# Altium footprint library PCB_AT32F435VMT7_2026-04-01.PcbLib: 12 footprints
Each footprint in its own frame and in the unit in brackets; x right, y up, seen from the top. Pads: shape width x height; smd on the part's side, far side on the other; paste and mask are expansions set on the pad; w line width, h text height; cw(c..) or ccw(c..) is an arc to the next point about the centre after c.
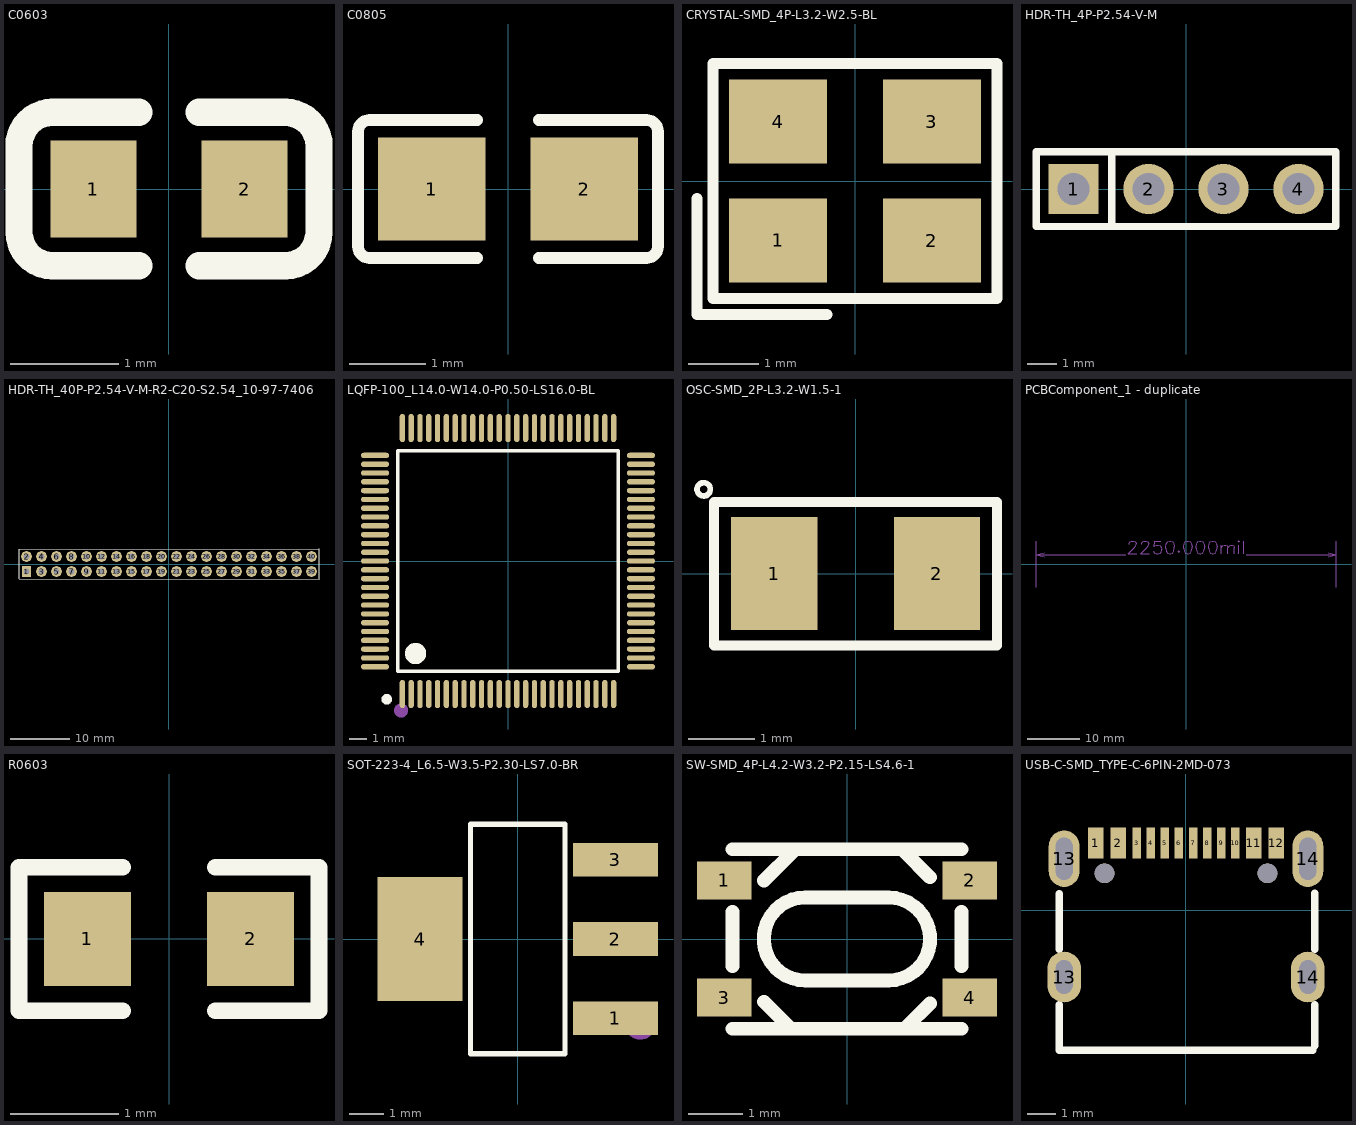
[diagram p0: the footprints below, top view; thin cyan lines are the x and y axes]

## C0603 [mm]
pads (2):
  rect 0.8x0.9 smd paste+0 mask+0.051: 1(-0.7,0) 2(0.7,0)
Top Overlay:
  lines w0.254: -1.08,0.71 -0.28,0.71 ; -1.08,0.71 ccw(c-1.08,0.4) -1.39,0.4 -1.39,-0.4 ccw(c-1.08,-0.4) -1.08,-0.71 -0.28,-0.71 ; 0.28,-0.71 1.08,-0.71 ccw(c1.08,-0.4) 1.39,-0.4 ; 0.28,0.71 1.08,0.71 cw(c1.08,0.4) 1.39,0.4 1.39,-0.4

## C0805 [mm]
pads (2):
  rect 1.41x1.35 smd paste-100 mask+0.051: 1(-1,0) 2(1,0)
Top Overlay:
  lines w0.152: -0.401,-0.904 -1.811,-0.904 cw(c-1.811,-0.751) -1.964,-0.751 -1.964,0.751 cw(c-1.811,0.751) -1.811,0.904 -0.401,0.904 ; 0.401,-0.904 1.811,-0.904 ccw(c1.811,-0.751) 1.964,-0.751 1.964,0.751 ccw(c1.811,0.751) 1.811,0.904 0.401,0.904
Top Paste:
  region: 0.475,-0.62 0.475,-0.2 0.92,-0.2 0.92,0.25 0.48,0.25 0.475,0.66 0.525,0.71 1.675,0.71 1.725,0.66 1.725,-0.62 1.675,-0.67 0.525,-0.67
  region: -1.675,-0.62 -1.675,0.66 -1.625,0.71 -0.475,0.71 -0.425,0.66 -0.42,0.25 -0.87,0.25 -0.87,-0.2 -0.43,-0.2 -0.425,-0.62 -0.475,-0.67 -1.625,-0.67

## CRYSTAL-SMD_4P-L3.2-W2.5-BL [mm]
pads (4):
  rect 1.4x1.2 smd paste+0 mask+0.051: 1(-1.1,-0.85) 2(1.1,-0.85) 3(1.1,0.85) 4(-1.1,0.85)
Top Overlay:
  lines w0.152: -2.257,-0.25 -2.257,-1.907 -0.4,-1.907 ; -2.029,-1.679 2.029,-1.678 2.029,1.679 -2.029,1.679 -2.029,-1.679
Mechanical 15:
  circle w0.36: c-1.143,-0.889 r0.18

## HDR-TH_4P-P2.54-V-M [mm]
pads (4):
  rect 1.7x1.7 hole 1.1 paste+0 mask+0.051: 1(-3.81,0)
  round 1.7 hole 1.1 paste+0 mask+0.051: 2(-1.27,0) 3(1.27,0) 4(3.81,0)
Top Overlay:
  lines w0.254: -2.516,-1.27 -2.516,1.27 ; -2.516,1.27 -5.08,1.27 -5.08,-1.27 5.08,-1.27 5.08,1.27 -2.516,1.27

## HDR-TH_40P-P2.54-V-M-R2-C20-S2.54_10-97-7406 [mm]
pads (40):
  rect 1.575x1.8 hole 1.02 paste+0 mask+0.051: 1(-24.13,-1.27)
  round 1.8 hole 1.02 paste+0 mask+0.051: 2(-24.13,1.27) 3(-21.59,-1.27) 4(-21.59,1.27) 5(-19.05,-1.27) 6(-19.05,1.27) 7(-16.51,-1.27) 8(-16.51,1.27) 9(-13.97,-1.27) 10(-13.97,1.27) 11(-11.43,-1.27) 12(-11.43,1.27) 13(-8.89,-1.27) 14(-8.89,1.27) 15(-6.35,-1.27) 16(-6.35,1.27) 17(-3.81,-1.27) 18(-3.81,1.27) 19(-1.27,-1.27) 20(-1.27,1.27) 21(1.27,-1.27) 22(1.27,1.27) 23(3.81,-1.27) 24(3.81,1.27) 25(6.35,-1.27) 26(6.35,1.27) 27(8.89,-1.27) 28(8.89,1.27) 29(11.43,-1.27) 30(11.43,1.27) 31(13.97,-1.27) 32(13.97,1.27) 33(16.51,-1.27) 34(16.51,1.27) 35(19.05,-1.27) 36(19.05,1.27) 37(21.59,-1.27) 38(21.59,1.27) 39(24.13,-1.27) 40(24.13,1.27)
Top Overlay:
  lines w0.203: -25.4,-2.54 25.4,-2.54 25.4,2.54 -25.4,2.54 -25.4,-2.54

## LQFP-100_L14.0-W14.0-P0.50-LS16.0-BL [mm]
pads (100):
  oval 0.3x1.6 smd paste+0 mask+0.051: 1(-6,-7.55) 2(-5.5,-7.55) 3(-5,-7.55) 4(-4.5,-7.55) 5(-4,-7.55) 6(-3.5,-7.55) 7(-3,-7.55) 8(-2.5,-7.55) 9(-2,-7.55) 10(-1.5,-7.55) 11(-1,-7.55) 12(-0.5,-7.55) 13(0,-7.55) 14(0.5,-7.55) 15(1,-7.55) 16(1.5,-7.55) 17(2,-7.55) 18(2.5,-7.55) 19(3,-7.55) 20(3.5,-7.55) 21(4,-7.55) 22(4.5,-7.55) 23(5,-7.55) 24(5.5,-7.55) 25(6,-7.55) 51(6,7.55) 52(5.5,7.55) 53(5,7.55) 54(4.5,7.55) 55(4,7.55) 56(3.5,7.55) 57(3,7.55) 58(2.5,7.55) 59(2,7.55) 60(1.5,7.55) 61(1,7.55) 62(0.5,7.55) 63(0,7.55) 64(-0.5,7.55) 65(-1,7.55) 66(-1.5,7.55) 67(-2,7.55) 68(-2.5,7.55) 69(-3,7.55) 70(-3.5,7.55) 71(-4,7.55) 72(-4.5,7.55) 73(-5,7.55) 74(-5.5,7.55) 75(-6,7.55)
  oval 1.6x0.3 smd paste+0 mask+0.051: 26(7.55,-6) 27(7.55,-5.5) 28(7.55,-5) 29(7.55,-4.5) 30(7.55,-4) 31(7.55,-3.5) 32(7.55,-3) 33(7.55,-2.5) 34(7.55,-2) 35(7.55,-1.5) 36(7.55,-1) 37(7.55,-0.5) 38(7.55,0) 39(7.55,0.5) 40(7.55,1) 41(7.55,1.5) 42(7.55,2) 43(7.55,2.5) 44(7.55,3) 45(7.55,3.5) 46(7.55,4) 47(7.55,4.5) 48(7.55,5) 49(7.55,5.5) 50(7.55,6) 76(-7.55,6) 77(-7.55,5.5) 78(-7.55,5) 79(-7.55,4.5) 80(-7.55,4) 81(-7.55,3.5) 82(-7.55,3) 83(-7.55,2.5) 84(-7.55,2) 85(-7.55,1.5) 86(-7.55,1) 87(-7.55,0.5) 88(-7.55,0) 89(-7.55,-0.5) 90(-7.55,-1) 91(-7.55,-1.5) 92(-7.55,-2) 93(-7.55,-2.5) 94(-7.55,-3) 95(-7.55,-3.5) 96(-7.55,-4) 97(-7.55,-4.5) 98(-7.55,-5) 99(-7.55,-5.5) 100(-7.55,-6)
Top Overlay:
  lines w0.2: -6.25,-6.25 6.25,-6.25 6.25,6.25 -6.25,6.25 -6.25,-6.25
  lines w0.3: -6.883,-7.696 ccw(c-6.884,-7.846) -6.881,-7.696
  lines w0.6: -5.25,-4.95 ccw(c-5.249,-5.25) -5.245,-4.95
Mechanical 15:
  circle w0.4: c-6.071,-8.484 r0.2

## OSC-SMD_2P-L3.2-W1.5-1 [mm]
pads (2):
  rect 1.3x1.7 smd paste+0 mask+0.051: 1(-1.225,0) 2(1.225,0)
Top Overlay:
  circle w0.085: c-2.286,1.27 r0.1
  lines w0.152: -2.129,-1.079 2.129,-1.079 2.129,1.079 -2.129,1.079 -2.129,-1.079

## PCBComponent_1 - duplicate [mm]
Mechanical 15:
  lines w0.102: -28.575,-4.473 -28.575,4.334 ; -27.051,1.413 -28.575,1.794 ; -27.051,2.175 -28.575,1.794 ; -11.476,1.794 -28.575,1.794 ; -10.853,3.78 -10.853,3.896 -10.737,4.125 -10.622,4.242 -10.391,4.356 -9.929,4.356 -9.698,4.242 -9.583,4.125 -9.467,3.896 -9.467,3.665 -9.583,3.434 -9.815,3.086 -10.968,1.933 -9.352,1.933 ; -8.473,3.78 -8.473,3.896 -8.359,4.125 -8.242,4.242 -8.014,4.356 -7.551,4.356 -7.32,4.242 -7.203,4.125 -7.089,3.896 -7.089,3.665 -7.203,3.434 -7.435,3.086 -8.59,1.933 -6.972,1.933 ; -6.21,2.395 -6.096,2.164 -5.982,2.047 -5.634,1.933 -5.288,1.933 -4.94,2.047 -4.712,2.278 -4.595,2.626 -4.595,2.855 -4.712,3.203 -4.94,3.434 -5.288,3.548 -5.634,3.548 -5.982,3.434 -6.096,3.317 -5.982,4.356 -4.826,4.356 ; 6.673,1.933 6.673,3.548 ; 6.673,3.086 7.021,3.434 7.252,3.548 7.597,3.548 7.828,3.434 7.943,3.086 ; 7.943,1.933 7.943,3.086 ; 9.213,1.933 9.213,3.086 9.098,3.434 8.867,3.548 8.522,3.548 8.291,3.434 7.943,3.086 ; 10.091,1.933 10.091,3.548 ; 10.968,1.933 10.968,4.356 ; 11.476,1.794 28.575,1.794 ; 27.051,1.413 28.575,1.794 ; 27.051,2.175 28.575,1.794 ; 28.575,-4.473 28.575,4.334 ; -3.833,2.972 -3.719,2.395 -3.487,2.047 -3.139,1.933 -2.908,1.933 -2.563,2.047 -2.332,2.395 -2.217,2.972 -2.217,3.317 -2.332,3.896 -2.563,4.242 -2.908,4.356 -3.139,4.356 -3.487,4.242 -3.719,3.896 -3.833,3.317 -3.833,2.972 ; -1.455,2.395 -1.339,2.278 -1.224,2.395 -1.339,2.51 -1.455,2.395 ; -0.462,2.972 -0.345,2.395 -0.114,2.047 0.231,1.933 0.462,1.933 0.808,2.047 1.039,2.395 1.156,2.972 1.156,3.317 1.039,3.896 0.808,4.242 0.462,4.356 0.231,4.356 -0.114,4.242 -0.345,3.896 -0.462,3.317 -0.462,2.972 ; 1.918,2.972 2.032,2.395 2.263,2.047 2.609,1.933 2.84,1.933 3.188,2.047 3.416,2.395 3.533,2.972 3.533,3.317 3.416,3.896 3.188,4.242 2.84,4.356 2.609,4.356 2.263,4.242 2.032,3.896 1.918,3.317 1.918,2.972 ; 4.295,2.972 4.409,2.395 4.641,2.047 4.989,1.933 5.22,1.933 5.565,2.047 5.796,2.395 5.911,2.972 5.911,3.317 5.796,3.896 5.565,4.242 5.22,4.356 4.989,4.356 4.641,4.242 4.409,3.896 4.295,3.317 4.295,2.972 ; 9.975,4.356 10.091,4.473 10.206,4.356 10.091,4.242 9.975,4.356

## R0603 [mm]
pads (2):
  rect 0.806x0.864 smd paste-100 mask+0.051: 1(-0.753,0) 2(0.753,0)
Top Overlay:
  lines w0.152: -0.426,-0.661 -1.385,-0.661 -1.385,0.661 -0.426,0.661 ; 0.426,-0.661 1.385,-0.661 1.385,0.661 0.426,0.661
Top Paste:
  region: -1.195,-0.45 -0.395,-0.45 -0.345,-0.4 -0.345,-0.172 -0.715,-0.172 -0.715,0.158 -0.345,0.158 -0.345,0.4 -0.395,0.45 -1.195,0.45 -1.245,0.4 -1.245,-0.4
  region: 1.195,0.45 0.395,0.45 0.345,0.4 0.345,0.172 0.715,0.172 0.715,-0.158 0.345,-0.158 0.345,-0.4 0.395,-0.45 1.195,-0.45 1.245,-0.4 1.245,0.4

## SOT-223-4_L6.5-W3.5-P2.30-LS7.0-BR [mm]
pads (4):
  rect 2.47x0.98 smd paste+0 mask+0.051: 1(2.835,-2.3) 2(2.835,0) 3(2.835,2.3)
  rect 2.47x3.6 smd paste+0 mask+0.051: 4(-2.835,0)
Top Overlay:
  lines w0.152: -1.371,-3.326 1.371,-3.326 1.371,3.326 -1.371,3.326 -1.371,-3.326
Mechanical 15:
  circle w0.5: c3.556,-2.413 r0.25

## SW-SMD_4P-L4.2-W3.2-P2.15-LS4.6-1 [mm]
pads (4):
  rect 1x0.7 smd paste+0 mask+0.051: 1(-2.25,1.075) 2(2.25,1.075) 3(-2.25,-1.075) 4(2.25,-1.075)
Top Overlay:
  lines w0.254: -2.1,-1.646 2.1,-1.646 ; -2.1,-0.494 -2.1,0.494 -2.099,0.495 ; -2.1,1.646 2.1,1.646 ; -1.52,-1.151 -1.07,-1.6 ; -1.52,1.074 -0.994,1.6 ; 1.051,1.6 1.52,1.131 ; 1.102,-1.6 1.52,-1.182 ; 2.1,-0.494 2.1,0.494 ; -0.763,-0.761 cw(c-0.763,0.001) -0.763,0.763 0.762,0.762 cw(c0.761,0.001) 0.761,-0.761 -0.763,-0.761

## USB-C-SMD_TYPE-C-6PIN-2MD-073 [mm]
pads (18):
  rect 0.55x1.1 smd paste-100 mask+0.05: 1(-3.2,2.375) 2(-2.4,2.375) 11(2.4,2.375) 12(3.2,2.375)
  rect 0.3x1.1 smd paste-100 mask+0.05: 3(-1.75,2.375) 4(-1.25,2.375) 5(-0.75,2.375) 6(-0.25,2.375) 7(0.25,2.375) 8(0.75,2.375) 9(1.25,2.375) 10(1.75,2.375)
  oval 1.2x1.8 hole 0.6 slot 1.2 at 90 deg paste+0 mask+0.05: 13(-4.325,-2.375) 14(4.325,-2.375)
  oval 1.1x2 hole 0.6 slot 1.5 at 90 deg paste+0 mask+0.05: 13(-4.325,1.825) 14(4.325,1.825)
  round 0.7 hole 0.7 unplated paste+0: ""(-2.89,1.305) ""(2.89,1.305)
Top Overlay:
  lines w0.254: -4.5,-3.356 -4.5,-4.975 4.5,-4.975 ; -4.5,-1.394 -4.5,0.594 ; 4.572,-4.826 4.572,-3.353 ; 4.572,-1.397 4.572,0.597
Top Paste:
  drawing of 16 lines, arcs and shapes, not listed
Mechanical 15:
  circle w0.25: c2.89,1.305 r0.125
  circle w0.25: c-2.89,1.305 r0.125